# Altium footprint library PcbLib1.PcbLib: 1 footprints
Each footprint in its own frame and in the unit in brackets; x right, y up, seen from the top. Pads: shape width x height; smd on the part's side, far side on the other; paste and mask are expansions set on the pad; w line width, h text height; cw(c..) or ccw(c..) is an arc to the next point about the centre after c.
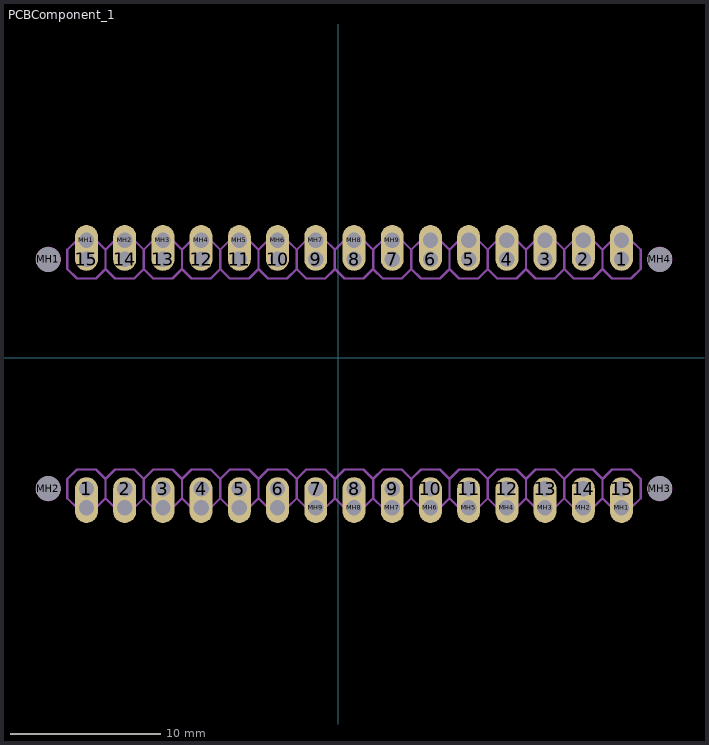
[diagram p0: the footprint, top view; thin cyan lines are the x and y axes]

## PCBComponent_1 [mil]
pads (64):
  oval 60x120 hole 40 copper offset 0,-30: 1(-658.78,-342.08) 2(-558.78,-342.08) 3(-458.78,-342.08) 4(-358.78,-342.08) 5(-258.78,-342.08) 6(-158.78,-342.08) 7(-58.78,-342.08) 8(41.22,-342.08) 9(141.22,-342.08) 10(241.22,-342.08) 11(341.22,-342.08) 12(441.22,-342.08) 13(541.22,-342.08) 14(641.22,-342.08) 15(741.22,-342.08)
  oval 60x120 hole 40 copper offset 0,30: 1(741.22,257.92) 2(641.22,257.92) 3(541.22,257.92) 4(441.22,257.92) 5(341.22,257.92) 6(241.22,257.92) 7(141.22,257.92) 8(41.22,257.92) 9(-58.78,257.92) 10(-158.78,257.92) 11(-258.78,257.92) 12(-358.78,257.92) 13(-458.78,257.92) 14(-558.78,257.92) 15(-658.78,257.92)
  round 65 hole 65 unplated: MH1(-758.78,257.92) MH2(-758.78,-342.08) MH3(841.22,-342.08) MH4(841.22,257.92)
  round 40 hole 40 unplated: MH1(-658.78,307.92) MH1(741.22,-392.08) MH2(-558.78,307.92) MH2(641.22,-392.08) MH3(-458.78,307.92) MH3(541.22,-392.08) MH4(-358.78,307.92) MH4(441.22,-392.08) MH5(-258.78,307.92) MH5(341.22,-392.08) MH6(-158.78,307.92) MH6(241.22,-392.08) MH7(-58.78,307.92) MH7(141.22,-392.08) MH8(41.22,-392.08) MH8(41.22,307.92) MH9(-58.78,-392.08) MH9(141.22,307.92) MH10(-158.78,-392.08) MH10(241.22,307.92) MH11(-258.78,-392.08) MH11(341.22,307.92) MH12(-358.78,-392.08) MH12(441.22,307.92) MH13(-458.78,-392.08) MH13(541.22,307.92) MH14(-558.78,-392.08) MH14(641.22,307.92) MH15(-658.78,-392.08) MH15(741.22,307.92)
Keep-Out Layer:
  drawing of 34 lines, arcs and shapes, not listed
Mechanical 3:
  region: -548.78,267.92 -548.78,247.92 -568.78,247.92 -568.78,267.92
  region: -448.78,267.92 -448.78,247.92 -468.78,247.92 -468.78,267.92
  region: -348.78,267.92 -348.78,247.92 -368.78,247.92 -368.78,267.92
  region: -248.78,267.92 -248.78,247.92 -268.78,247.92 -268.78,267.92
  region: -148.78,267.92 -148.78,247.92 -168.78,247.92 -168.78,267.92
  region: -48.78,267.92 -48.78,247.92 -68.78,247.92 -68.78,267.92
  region: 51.22,267.92 51.22,247.92 31.22,247.92 31.22,267.92
  region: 151.22,267.92 151.22,247.92 131.22,247.92 131.22,267.92
  region: 251.22,267.92 251.22,247.92 231.22,247.92 231.22,267.92
  region: 351.22,267.92 351.22,247.92 331.22,247.92 331.22,267.92
  region: 451.22,267.92 451.22,247.92 431.22,247.92 431.22,267.92
  region: 551.22,267.92 551.22,247.92 531.22,247.92 531.22,267.92
  region: 651.22,267.92 651.22,247.92 631.22,247.92 631.22,267.92
  region: 751.22,267.92 751.22,247.92 731.22,247.92 731.22,267.92
  region: -648.78,267.92 -648.78,247.92 -668.78,247.92 -668.78,267.92
  region: 631.22,-352.08 631.22,-332.08 651.22,-332.08 651.22,-352.08
  region: 531.22,-352.08 531.22,-332.08 551.22,-332.08 551.22,-352.08
  region: 431.22,-352.08 431.22,-332.08 451.22,-332.08 451.22,-352.08
  region: 331.22,-352.08 331.22,-332.08 351.22,-332.08 351.22,-352.08
  region: 231.22,-352.08 231.22,-332.08 251.22,-332.08 251.22,-352.08
  region: 131.22,-352.08 131.22,-332.08 151.22,-332.08 151.22,-352.08
  region: 31.22,-352.08 31.22,-332.08 51.22,-332.08 51.22,-352.08
  region: -68.78,-352.08 -68.78,-332.08 -48.78,-332.08 -48.78,-352.08
  region: -168.78,-352.08 -168.78,-332.08 -148.78,-332.08 -148.78,-352.08
  region: -268.78,-352.08 -268.78,-332.08 -248.78,-332.08 -248.78,-352.08
  region: -368.78,-352.08 -368.78,-332.08 -348.78,-332.08 -348.78,-352.08
  region: -468.78,-352.08 -468.78,-332.08 -448.78,-332.08 -448.78,-352.08
  region: -568.78,-352.08 -568.78,-332.08 -548.78,-332.08 -548.78,-352.08
  region: -668.78,-352.08 -668.78,-332.08 -648.78,-332.08 -648.78,-352.08
  region: 731.22,-352.08 731.22,-332.08 751.22,-332.08 751.22,-352.08
Mechanical 7:
  drawing of 212 lines, arcs and shapes, not listed
3D body: height 150, standoff 0, extent -568.78,247.92 -548.78,267.92
3D body: height 150, standoff 0, extent -468.78,247.92 -448.78,267.92
3D body: height 150, standoff 0, extent -368.78,247.92 -348.78,267.92
3D body: height 150, standoff 0, extent -268.78,247.92 -248.78,267.92
3D body: height 150, standoff 0, extent -168.78,247.92 -148.78,267.92
3D body: height 150, standoff 0, extent -68.78,247.92 -48.78,267.92
3D body: height 150, standoff 0, extent 31.22,247.92 51.22,267.92
3D body: height 150, standoff 0, extent 131.22,247.92 151.22,267.92
3D body: height 150, standoff 0, extent 231.22,247.92 251.22,267.92
3D body: height 150, standoff 0, extent 331.22,247.92 351.22,267.92
3D body: height 150, standoff 0, extent 431.22,247.92 451.22,267.92
3D body: height 150, standoff 0, extent 531.22,247.92 551.22,267.92
3D body: height 150, standoff 0, extent 631.22,247.92 651.22,267.92
3D body: height 150, standoff 0, extent 731.22,247.92 751.22,267.92
3D body: height 150, standoff 0, extent -668.78,247.92 -648.78,267.92
3D body: height 50, standoff 0, extent 710.96,227.66 771.48,348.18
3D body: height 50, standoff 0, extent 610.96,227.66 671.48,348.18
3D body: height 50, standoff 0, extent 510.96,227.66 571.48,348.18
3D body: height 50, standoff 0, extent 410.96,227.66 471.48,348.18
3D body: height 50, standoff 0, extent 310.96,227.66 371.48,348.18
3D body: height 50, standoff 0, extent 210.96,227.66 271.48,348.18
3D body: height 50, standoff 0, extent 110.96,227.66 171.48,348.18
3D body: height 50, standoff 0, extent 10.96,227.66 71.48,348.18
3D body: height 50, standoff 0, extent -89.04,227.66 -28.52,348.18
3D body: height 50, standoff 0, extent -189.04,227.66 -128.52,348.18
3D body: height 50, standoff 0, extent -289.04,227.66 -228.52,348.18
3D body: height 50, standoff 0, extent -389.04,227.66 -328.52,348.18
3D body: height 50, standoff 0, extent -489.04,227.66 -428.52,348.18
3D body: height 50, standoff 0, extent -589.04,227.66 -528.52,348.18
3D body: height 50, standoff 0, extent -689.04,227.66 -628.52,348.18
3D body: height 150, standoff 0, extent 631.22,-352.08 651.22,-332.08
3D body: height 150, standoff 0, extent 531.22,-352.08 551.22,-332.08
3D body: height 150, standoff 0, extent 431.22,-352.08 451.22,-332.08
3D body: height 150, standoff 0, extent 331.22,-352.08 351.22,-332.08
3D body: height 150, standoff 0, extent 231.22,-352.08 251.22,-332.08
3D body: height 150, standoff 0, extent 131.22,-352.08 151.22,-332.08
3D body: height 150, standoff 0, extent 31.22,-352.08 51.22,-332.08
3D body: height 150, standoff 0, extent -68.78,-352.08 -48.78,-332.08
3D body: height 150, standoff 0, extent -168.78,-352.08 -148.78,-332.08
3D body: height 150, standoff 0, extent -268.78,-352.08 -248.78,-332.08
3D body: height 150, standoff 0, extent -368.78,-352.08 -348.78,-332.08
3D body: height 150, standoff 0, extent -468.78,-352.08 -448.78,-332.08
3D body: height 150, standoff 0, extent -568.78,-352.08 -548.78,-332.08
3D body: height 150, standoff 0, extent -668.78,-352.08 -648.78,-332.08
3D body: height 150, standoff 0, extent 731.22,-352.08 751.22,-332.08
3D body: height 50, standoff 0, extent -689.04,-432.34 -628.52,-311.82
3D body: height 50, standoff 0, extent -589.04,-432.34 -528.52,-311.82
3D body: height 50, standoff 0, extent -489.04,-432.34 -428.52,-311.82
3D body: height 50, standoff 0, extent -389.04,-432.34 -328.52,-311.82
3D body: height 50, standoff 0, extent -289.04,-432.34 -228.52,-311.82
3D body: height 50, standoff 0, extent -189.04,-432.34 -128.52,-311.82
3D body: height 50, standoff 0, extent -89.04,-432.34 -28.52,-311.82
3D body: height 50, standoff 0, extent 10.96,-432.34 71.48,-311.82
3D body: height 50, standoff 0, extent 110.96,-432.34 171.48,-311.82
3D body: height 50, standoff 0, extent 210.96,-432.34 271.48,-311.82
3D body: height 50, standoff 0, extent 310.96,-432.34 371.48,-311.82
3D body: height 50, standoff 0, extent 410.96,-432.34 471.48,-311.82
3D body: height 50, standoff 0, extent 510.96,-432.34 571.48,-311.82
3D body: height 50, standoff 0, extent 610.96,-432.34 671.48,-311.82
3D body: height 50, standoff 0, extent 710.96,-432.34 771.48,-311.82